# Altium footprint library Oki.PcbLib: 2 footprints
Each footprint in its own frame and in the unit in brackets; x right, y up, seen from the top. Pads: shape width x height; smd on the part's side, far side on the other; paste and mask are expansions set on the pad; w line width, h text height; cw(c..) or ccw(c..) is an arc to the next point about the centre after c.
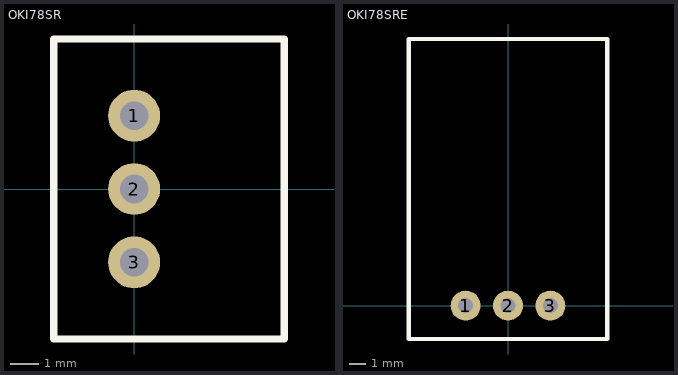
[diagram p0: the footprints below, top view; thin cyan lines are the x and y axes]

## OKI78SR [mm] "Regulator DC-DC 3.3V 1.5A"
pads (3):
  round 1.8 hole 1: 1(0,2.54) 2(0,0) 3(0,-2.54)
Top Overlay:
  lines w0.254: -2.794,-5.2 -2.794,5.2 5.207,5.2 5.207,-5.2 -2.794,-5.2
3D body: height 16.5, standoff -3.3, extent -2.868,-5.327 5.207,5.073

## OKI78SRE [mm] "DC-DC Converter Right-Angle"
pads (3):
  round 1.8 hole 0.9: 1(-2.54,0) 2(0,0) 3(2.54,0)
Top Overlay:
  lines w0.254: -5.95,-2 -5.95,16 5.95,16 5.95,-2 -5.95,-2
3D body: height 9.65, standoff -3.84, extent -5.842,-2.032 6.096,16.002